# Altium footprint library 继电器板2.PcbLib: 23 footprints (part 2 of 2)
Each footprint in its own frame and in the unit in brackets; x right, y up, seen from the top. Pads: shape width x height; smd on the part's side, far side on the other; paste and mask are expansions set on the pad; w line width, h text height; cw(c..) or ccw(c..) is an arc to the next point about the centre after c.
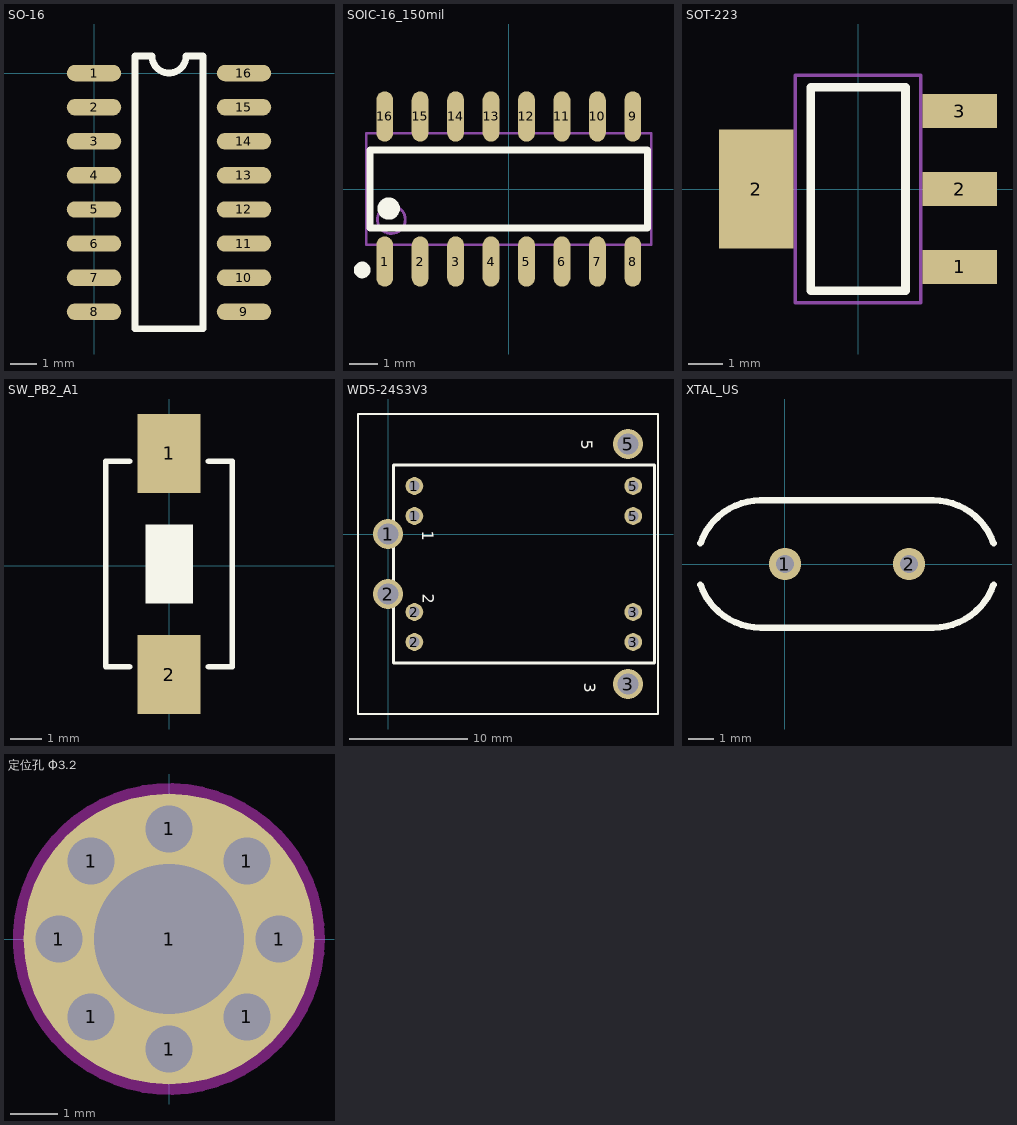
[diagram p1: the footprints below, top view; thin cyan lines are the x and y axes]

## SO-16 [mil]
pads (16):
  oval 80x24 smd: 1(0,0) 2(0,-50) 3(0,-100) 4(0,-150) 5(0,-200) 6(0,-250) 7(0,-300) 8(0,-350) 9(220,-350) 10(220,-300) 11(220,-250) 12(220,-200) 13(220,-150) 14(220,-100) 15(220,-50) 16(220,0)
Top Overlay:
  lines w10: 60,-375 160,-375 160,25 135,25 cw(c110,25) 85,25 60,25 60,-375

## SOIC-16_150mil [mm]
pads (16):
  oval 0.6x1.8 smd: 1(-4.445,-2.6) 2(-3.175,-2.6) 3(-1.905,-2.6) 4(-0.635,-2.6) 5(0.635,-2.6) 6(1.905,-2.6) 7(3.175,-2.6) 8(4.445,-2.6) 9(4.445,2.6) 10(3.175,2.6) 11(1.905,2.6) 12(0.635,2.6) 13(-0.635,2.6) 14(-1.905,2.6) 15(-3.175,2.6) 16(-4.445,2.6)
Top Overlay:
  circle w0.4: c-4.3,-0.7 r0.2
  circle w0.3: c-5.25,-2.9 r0.15
  lines w0.254: -4.975,-1.4 -4.975,1.4 4.975,1.4 4.975,-1.4 -4.975,-1.4
Mechanical 13:
  circle w0.1: c-4.205,-1.095 r0.5
  lines w0.1: -5.105,-1.995 -5.105,1.995 5.105,1.995 5.105,-1.995 -5.105,-1.995

## SOT-223 [mm]
pads (4):
  rect 2.2x1 smd: 1(3,-2.3) 2(3,0) 3(3,2.3)
  rect 2.2x3.5 smd: 2(-3,0)
Top Overlay:
  lines w0.254: -1.4,-3 -1.4,3 1.4,3 1.4,-3 -1.4,-3
Mechanical 13:
  lines w0.1: -1.85,-3.35 1.85,-3.35 1.85,3.35 -1.85,3.35 -1.85,-3.35
3D body: height 1.64, standoff -0.04, extent -3.49,-3.242 3.49,3.243

## SW_PB2_A1 [mm]
pads (2):
  rect 2x2.5 smd: 1(0,3.556) 2(0,-3.444)
Top Overlay:
  region: -0.747,1.309 -0.747,-1.191 0.753,-1.191 0.753,1.309
  lines w0.178: -1.25,-3.194 -2,-3.19 -2,3.306 -1.25,3.306 ; 1.25,-3.194 2,-3.194 2,3.306 1.25,3.306
3D body: height 0.8, standoff 0, extent -2.032,-3.175 2.032,3.302
3D body: height 1.2, standoff 0.8, extent -0.762,-1.143 0.762,1.27

## WD5-24S3V3 [mm]
pads (12):
  round 2.54 hole 1.778: 1(0,0) 2(0,-5.08) 3(20.32,-12.7) 5(20.32,7.62)
  round 1.5 hole 0.9: 1(2.235,1.524) 1(2.235,4.064) 2(2.235,-9.144) 2(2.235,-6.604) 3(20.759,-9.144) 3(20.759,-6.604) 5(20.759,1.524) 5(20.759,4.064)
Top Overlay:
  lines w0.203: -2.54,-15.24 -2.54,10.16 22.86,10.16 22.86,-15.24 -2.54,-15.24
  lines w0.254: 0.457,4.064 0.457,5.842 ; 2.235,5.842 0.457,5.842 ; 0.457,5.842 22.555,5.842 22.555,-10.922 18.981,-10.922 0.457,-10.922 0.457,5.842
  text "1" at 2.896,0.279 h1
  text "2" at 2.946,-5.055 h1
  text "3" at 16.612,-12.573 h1
  text "5" at 16.358,7.976 h1

## XTAL_US [mil]
pads (2):
  round 50 hole 28: 1(0,0) 2(192.13,0)
Top Overlay:
  lines w10: -130.92,-31.85 ccw(c-37.79,0) -37.79,-98.42 ; -130.92,31.85 cw(c-37.79,0) -37.79,98.43 ; -38,98.42 229.92,98.43 cw(c229.92,0) 323.05,31.85 ; -37.8,-98.43 229.92,-98.42 ccw(c229.92,0) 323.05,-31.85

## 定位孔 Φ3.2 [mm]
pads (9):
  round 1 hole 1 unplated: 1(-2.35,0) 1(-1.662,-1.662) 1(-1.662,1.662) 1(0,-2.35) 1(0,2.35) 1(1.662,-1.662) 1(1.662,1.662) 1(2.35,0)
  round 6.2 hole 3.2: 1(0,0)
Keep-Out Layer:
  circle w0.254: c0,0 r3.2